# Altium schematic symbol library MC7905BD2TR4G.SchLib: 1 symbol
Pins are listed as number, name and electrical type; pins without a type are passive.

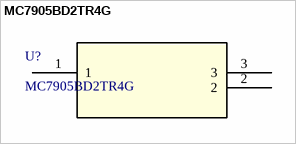
[diagram p0: symbol MC7905BD2TR4G]

## MC7905BD2TR4G
designator U?
No Description Available; Mfr_Name: onsemi; Copyright: Copyright (C) 2022 Ultra Librarian. All rights reserved.; Manufacturer_Part_Number: MC7905BD2TR4G; Digi-Key_Part_Number_1: 2156-MC7905BD2TR4G-OS-ND; Digi-Key_Part_Number_2: MC7905BD2TR4G-ND; Digi-Key_Part_Number_3: MC7905BD2TR4GOSCT-ND; Digi-Key_Part_Number_4: MC7905BD2TR4GOSDKR-ND; Digi-Key_Part_Number_5: MC7905BD2TR4GOSTR-ND; RefDes: RefDes; Type: DEV
footprint D2PAK3_ONS
pins: 1, 2, 3